# Altium schematic symbol library NUP42.SchLib: 1 symbol
Pins are listed as number, name and electrical type; pins without a type are passive.

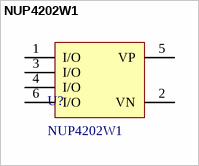
[diagram p0: symbol NUP4202W1]

## NUP4202W1
designator U?
ESD Protection Diodes with Low  Clamping Voltage
footprint SOT-363
pins: 1 I/O, 2 VN, 3 I/O, 4 I/O, 5 VP, 6 I/O